# Altium schematic symbol library Mina.SchLib: 5 symbols
Pins are listed as number, name and electrical type; pins without a type are passive.

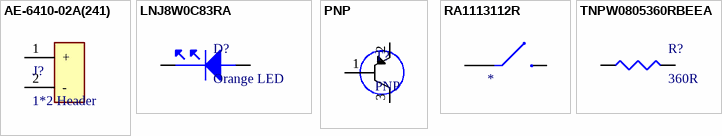
[diagram p0: symbols AE-6410-02A(241) to TNPW0805360RBEEA]

## AE-6410-02A(241)
designator J?, comment 1*2 Header
KK 254 Wire-to-Board Header, Vertical, with Friction Lock, 2 Circuits, Gold (Au) Plating; Manufacturer Part Number: AE-6410-02A(241); Manufacturer: Molex; Supplier 1: Mouser; Stock 1: 4797; Pricing 1: 1=0.34, 10=0.286, 50=0.286, 100=0.223, 1000=0.223, 10000=0.19 (USD); Supplier Part Number 1: 538-22-29-2021; RoHS: No
pins: 1 +, 2 -

## LNJ8W0C83RA
designator D?, comment Orange LED
Orange 620nm LED Indication - Discrete 1.95V 0603 (1608 Metric); Manufacturer: Panasonic SSG; Manufacturer Part Number: LNJ8W0C83RA; Luminous Intensity: 17.5mcd; Viewing Angle: 165°; Lens Style: Round; Test Current: 5mA; Number of LEDs: 1; Supplier 1: Digikey; RoHS: Yes; Category: LEDs; Stock 1: 21; Pricing 1: 1=0.12, 10=0.1 (USD); Mount: Surface Mount; Case/Package: 0603; Number of Pins: 2; Color: Orange; Case Code (Metric): 1608; Case Code (Imperial): 0603; Package Quantity: 1; Packaging: Cut Tape; Forward Voltage: 1.95V; Wavelength: 620nm; Dominant Wavelength: 620nm; Forward Current: 5mA; Length: 1.6mm; Width: 0.8mm; Height: 0.55mm; RoHS Compliant: Yes; ComponentLink1URL: https://datasheet.ciiva.com/5685/1385197-5685549.pdf?src-supplier=Farnell; ComponentLink1Description: https://datasheet.ciiva.com/5685/1385197-5685549.pdf?src-supplier=Farnell; ComponentLink2URL: https://datasheet.ciiva.com/11775/0900766b80f0a8cc-11775425.pdf?src-supplier=Rs; ComponentLink2Description: https://datasheet.ciiva.com/11775/0900766b80f0a8cc-11775425.pdf?src-supplier=Rs; Supplier Part Number 1: P14141CT-ND
pins: 1 42, 2 41

## PNP
designator T?
Trans Digital BJT PNP 12V 500mA 3-Pin EMT T/R; Manufacturer: Rohm; Manufacturer Part Number: DTB523YETL; Supplier 1: Mouser; RoHS: Yes; Category: BJTs; Stock 1: 2983; Pricing 1: 1=0.46, 10=0.288, 50=0.288, 100=0.137, 1000=0.117, 10000=0.066 (USD); ComponentLink1URL: https://datasheet.ciiva.com/11208/dtb523ye-11208896.pdf?src-supplier=Avnet; ComponentLink1Description: https://datasheet.ciiva.com/11208/dtb523ye-11208896.pdf?src-supplier=Avnet; ComponentLink2URL: https://datasheet.ciiva.com/6360/dtb523ye-6360234.pdf?src-supplier=Digikey; ComponentLink2Description: https://datasheet.ciiva.com/6360/dtb523ye-6360234.pdf?src-supplier=Digikey; ComponentLink3URL: https://datasheet.ciiva.com/6360/dtb523ye-6360236.pdf?src-supplier=Digikey; ComponentLink3Description: https://datasheet.ciiva.com/6360/dtb523ye-6360236.pdf?src-supplier=Digikey; ComponentLink4URL: https://datasheet.ciiva.com/6360/dtb523ye-6360237.pdf?src-supplier=Digikey; ComponentLink4Description: https://datasheet.ciiva.com/6360/dtb523ye-6360237.pdf?src-supplier=Digikey; Supplier Part Number 1: 755-DTB523YETL
footprint Diode
pins: 1 B, 2 C, 3 E

## RA1113112R
designator ?
Rocker Switch, SPST, OFF-ON, 10A, 125V AC, QC 0.187", RA1 Series | E-Switch RA1113112R; Supplier 1: Digikey; Manufacturer: E-Switch; Manufacturer Part Number: RA1113112R; RoHS: No; Category: Rocker Switches; Stock 1: 12234; Pricing 1: 1=0.69, 10=0.593, 25=0.5596, 50=0.5354, 100=0.5121, 250=0.48296, 500=0.46196, 1000=0.44184 (USD); ComponentLink1URL: http://www.mouser.com/ds/2/140/RA1-346116.pdf?src-supplier=Mouser; ComponentLink1Description: http://www.mouser.com/ds/2/140/RA1-346116.pdf?src-supplier=Mouser; ComponentLink2URL: https://sten-eswitch-13110800-production.s3.amazonaws.com/system/asset/product_line/data_sheet/81/RA1.pdf?src-supplier=Digikey; ComponentLink2Description: https://sten-eswitch-13110800-production.s3.amazonaws.com/system/asset/product_line/data_sheet/81/RA1.pdf?src-supplier=Digikey; ComponentLink3URL: https://www.e-switch.com/system/asset/product_line/data_sheet/81/RA1.pdf?src-supplier=Digikey; ComponentLink3Description: https://www.e-switch.com/system/asset/product_line/data_sheet/81/RA1.pdf?src-supplier=Digikey; ComponentLink4URL: https://datasheet.octopart.com/RA1113112R-E-Switch-datasheet-41578078.pdf?src-supplier=Electro+Sonic; ComponentLink4Description: https://datasheet.octopart.com/RA1113112R-E-Switch-datasheet-41578078.pdf?src-supplier=Electro+Sonic; ComponentLink5URL: https://datasheet.octopart.com/RA1113112R-E-Switch-datasheet-62278816.pdf?src-supplier=Master+Electronics; ComponentLink5Description: https://datasheet.octopart.com/RA1113112R-E-Switch-datasheet-62278816.pdf?src-supplier=Master+Electronics; Supplier Part Number 1: EG5619-ND
pins: 1, 2

## TNPW0805360RBEEA
designator R?, comment 360R
Res Thin Film 0805 360 Ohm 0.1% 1/5W ±25ppm/°C Molded SMD SMD Paper T/R; Manufacturer: Vishay Dale; Manufacturer Part Number: TNPW0805360RBEEA; Power Rating: 200mW; Voltage Rating: 150V; Supplier 1: Mouser; RoHS: Yes; Category: Chip SMD Resistors; Stock 1: 4801; Pricing 1: 1=0.56, 10=0.397, 50=0.304, 100=0.269, 1000=0.175, 10000=0.161 (USD); Case Code (Metric): 2012; Case Code (Imperial): 0805; Weight: 0.000194oz; Min Operating Temperature: -55°C; Max Operating Temperature: 155°C; Package Quantity: 5000; Packaging: Cut Tape; Resistance: 360R; Tolerance: 0.1%; Termination: SMD/SMT; Temperature Coefficient: 25ppm/°C; Series: TNPW e3; Technology: THIN FILM; Length: 2mm; Width: 1.25mm; Height: 0.45mm; RoHS Compliant: Yes; ComponentLink1URL: https://datasheet.ciiva.com/2608/tnpw-e3-2608263.pdf?src-supplier=Digikey; ComponentLink1Description: https://datasheet.ciiva.com/2608/tnpw-e3-2608263.pdf?src-supplier=Digikey; ComponentLink2URL: https://datasheet.ciiva.com/8942/tnpw-e3-8942985.pdf?src-supplier=Avnet; ComponentLink2Description: https://datasheet.ciiva.com/8942/tnpw-e3-8942985.pdf?src-supplier=Avnet; Supplier Part Number 1: 71-TNPW0805360RBEEA; Parameter 1: *
footprint R805
pins: 1 40, 2 39